# EAGLE library part CON_01X12 (library PP_Connectors)
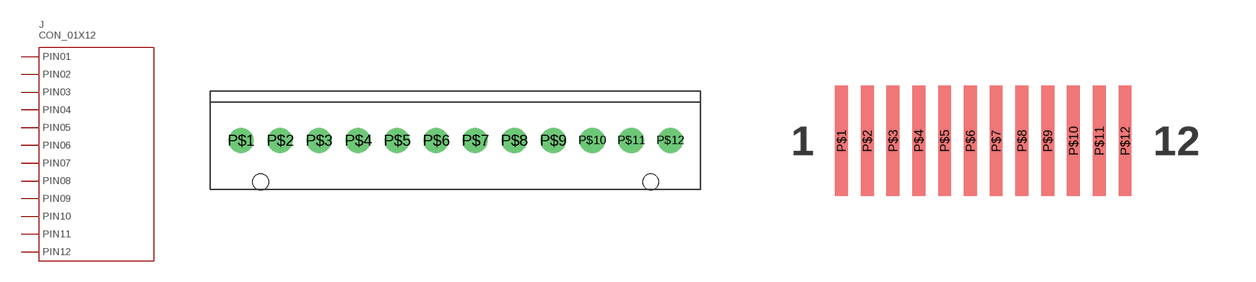
[diagram p8: symbol with the pads of 26-64-4120; footprints 26-64-4120, ST7789_CONNECTOR]

Designator prefix J

## CON_01X12_26-64-4120 (POPULATE: 1)  [26-64-4120]
P$1  1
P$2  2
P$3  3
P$4  4
P$5  5
P$6  6
P$7  7
P$8  8
P$9  9
P$10  10
P$11  11
P$12  12

## CON_01X12_ST7789_CONNECTOR  [ST7789_CONNECTOR]
Pads as for 26-64-4120

## Footprint 26-64-4120 (pad centres in mm)
drill 1.7: P$1 -21.78,0; P$2 -17.82,0; P$3 -13.86,0; P$4 -9.9,0; P$5 -5.94,0; P$6 -1.98,0; P$7 1.98,0; P$8 5.94,0; P$9 9.9,0; P$10 13.86,0; P$11 17.82,0; P$12 21.78,0
hole 1.6 at -19.8,-4.24
hole 1.6 at 19.8,-4.24

## Footprint ST7789_CONNECTOR (pad centres in mm)
smd 0.35 x 3: P$1 -3.85,0; P$2 -3.15,0; P$3 -2.45,0; P$4 -1.75,0; P$5 -1.05,0; P$6 -0.35,0; P$7 0.35,0; P$8 1.05,0; P$9 1.75,0; P$10 2.45,0; P$11 3.15,0; P$12 3.85,0